# Altium footprint library Quectel_BG77_PCB_Footprint_AD_V1.1.PcbLib: 1 footprints
Each footprint in its own frame and in the unit in brackets; x right, y up, seen from the top. Pads: shape width x height; smd on the part's side, far side on the other; paste and mask are expansions set on the pad; w line width, h text height; cw(c..) or ccw(c..) is an arc to the next point about the centre after c.
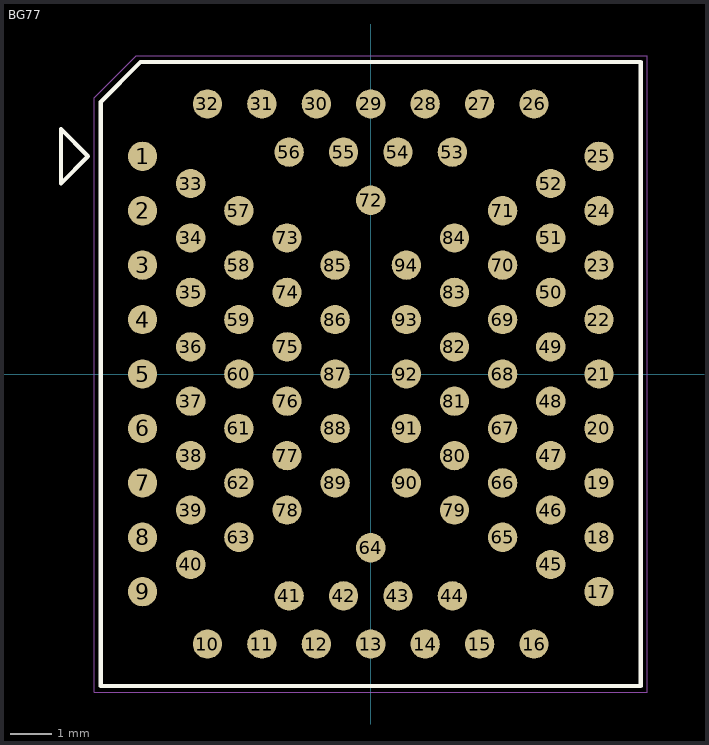
[diagram p0: the footprint, top view; thin cyan lines are the x and y axes]

## BG77 [mm]
height 1.7
pads (94):
  round 0.7 smd mask+0.05: 1(-5.45,5.2) 2(-5.45,3.9) 3(-5.45,2.6) 4(-5.45,1.3) 5(-5.45,0) 6(-5.45,-1.3) 7(-5.45,-2.6) 8(-5.45,-3.9) 9(-5.45,-5.2) 10(-3.9,-6.45) 11(-2.6,-6.45) 12(-1.3,-6.45) 13(0,-6.45) 14(1.3,-6.45) 15(2.6,-6.45) 16(3.9,-6.45) 17(5.45,-5.2) 18(5.45,-3.9) 19(5.45,-2.6) 20(5.45,-1.3) 21(5.45,0) 22(5.45,1.3) 23(5.45,2.6) 24(5.45,3.9) 25(5.45,5.2) 26(3.9,6.45) 27(2.6,6.45) 28(1.3,6.45) 29(0,6.45) 30(-1.3,6.45) 31(-2.6,6.45) 32(-3.9,6.45) 33(-4.3,4.55) 34(-4.3,3.25) 35(-4.3,1.95) 36(-4.3,0.65) 37(-4.3,-0.65) 38(-4.3,-1.95) 39(-4.3,-3.25) 40(-4.3,-4.55) 41(-1.95,-5.3) 42(-0.65,-5.3) 43(0.65,-5.3) 44(1.95,-5.3) 45(4.3,-4.55) 46(4.3,-3.25) 47(4.3,-1.95) 48(4.3,-0.65) 49(4.3,0.65) 50(4.3,1.95) 51(4.3,3.25) 52(4.3,4.55) 53(1.95,5.3) 54(0.65,5.3) 55(-0.65,5.3) 56(-1.95,5.3) 57(-3.15,3.9) 58(-3.15,2.6) 59(-3.15,1.3) 60(-3.15,0) 61(-3.15,-1.3) 62(-3.15,-2.6) 63(-3.15,-3.9) 64(0,-4.15) 65(3.15,-3.9) 66(3.15,-2.6) 67(3.15,-1.3) 68(3.15,0) 69(3.15,1.3) 70(3.15,2.6) 71(3.15,3.9) 72(0,4.15) 73(-2,3.25) 74(-2,1.95) 75(-2,0.65) 76(-2,-0.65) 77(-2,-1.95) 78(-2,-3.25) 79(2,-3.25) 80(2,-1.95) 81(2,-0.65) 82(2,0.65) 83(2,1.95) 84(2,3.25) 85(-0.85,2.6) 86(-0.85,1.3) 87(-0.85,0) 88(-0.85,-1.3) 89(-0.85,-2.6) 90(0.85,-2.6) 91(0.85,-1.3) 92(0.85,0) 93(0.85,1.3) 94(0.85,2.6)
Top Overlay:
  lines w0.1: -7.4,4.55 -6.75,5.2 -7.4,5.85 -7.4,4.55 ; -6.45,-7.45 6.45,-7.45 6.45,7.45 -5.5,7.45 -6.45,6.5 -6.45,-7.45
Mechanical 1:
  lines w0.01: -6.6,-7.6 6.6,-7.6 6.6,7.6 -5.6,7.6 -6.6,6.6 -6.6,-7.6